# EAGLE library part HSC8PART-60 (library Connectors)
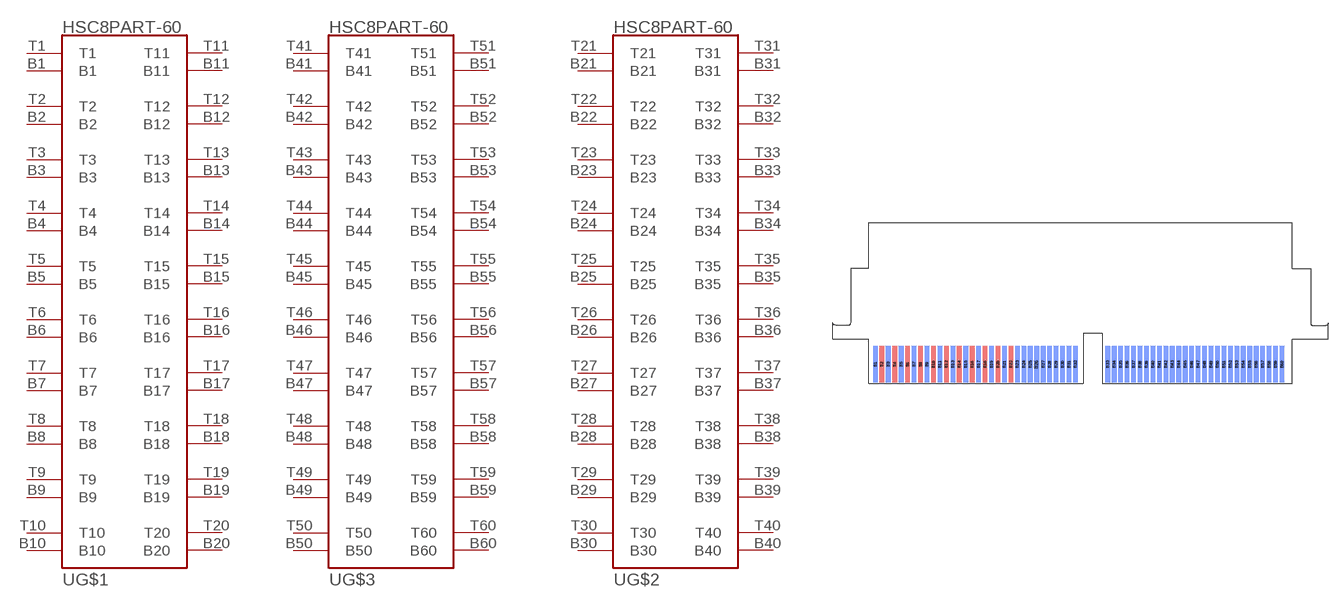
[diagram p11: symbol with the pads of HSC8-60PINOUUT; footprint HSC8-60PINOUUT]

Designator prefix -; gates G$1=HSC8SCHEMATICPART G$2=HSC8SCHEMATIC_BANK2 G$3=HSC8SCHEMATIC_BANK3

## HSC8PART-60  [HSC8-60PINOUUT]
B1  G$1:B1
B2  G$1:B2
B3  G$1:B3
B4  G$1:B4
B5  G$1:B5
B6  G$1:B6
B7  G$1:B7
B8  G$1:B8
B9  G$1:B9
B10  G$1:B10
B11  G$1:B11
B12  G$1:B12
B13  G$1:B13
B14  G$1:B14
B15  G$1:B15
B16  G$1:B16
B17  G$1:B17
B18  G$1:B18
B19  G$1:B19
B20  G$1:B20
B21  G$2:B21
B22  G$2:B22
B23  G$2:B23
B24  G$2:B24
B25  G$2:B25
B26  G$2:B26
B27  G$2:B27
B28  G$2:B28
B29  G$2:B29
B30  G$2:B30
B31  G$2:B31
B32  G$2:B32
B33  G$2:B33
B34  G$2:B34
B35  G$2:B35
B36  G$2:B36
B37  G$2:B37
B38  G$2:B38
B39  G$2:B39
B40  G$2:B40
B41  G$3:B41
B42  G$3:B42
B43  G$3:B43
B44  G$3:B44
B45  G$3:B45
B46  G$3:B46
B47  G$3:B47
B48  G$3:B48
B49  G$3:B49
B50  G$3:B50
B51  G$3:B51
B52  G$3:B52
B53  G$3:B53
B54  G$3:B54
B55  G$3:B55
B56  G$3:B56
B57  G$3:B57
B58  G$3:B58
B59  G$3:B59
B60  G$3:B60
T1  G$1:T1
T2  G$1:T2
T3  G$1:T3
T4  G$1:T4
T5  G$1:T5
T6  G$1:T6
T7  G$1:T7
T8  G$1:T8
T9  G$1:T9
T10  G$1:T10
T11  G$1:T11
T12  G$1:T12
T13  G$1:T13
T14  G$1:T14
T15  G$1:T15
T16  G$1:T16
T17  G$1:T17
T18  G$1:T18
T19  G$1:T19
T20  G$1:T20
T21  G$2:T21
T22  G$2:T22
T23  G$2:T23
T24  G$2:T24
T25  G$2:T25
T26  G$2:T26
T27  G$2:T27
T28  G$2:T28
T29  G$2:T29
T30  G$2:T30
T31  G$2:T31
T32  G$2:T32
T33  G$2:T33
T34  G$2:T34
T35  G$2:T35
T36  G$2:T36
T37  G$2:T37
T38  G$2:T38
T39  G$2:T39
T40  G$2:T40
T41  G$3:T41
T42  G$3:T42
T43  G$3:T43
T44  G$3:T44
T45  G$3:T45
T46  G$3:T46
T47  G$3:T47
T48  G$3:T48
T49  G$3:T49
T50  G$3:T50
T51  G$3:T51
T52  G$3:T52
T53  G$3:T53
T54  G$3:T54
T55  G$3:T55
T56  G$3:T56
T57  G$3:T57
T58  G$3:T58
T59  G$3:T59
T60  G$3:T60

## Footprint HSC8-60PINOUUT (pad centres in mm)
smd 0.575 x 4.5 bottom: B1 0.8,2.4; B2 1.6,2.4; B3 2.4,2.4; B4 3.2,2.4; B5 4,2.4; B6 4.8,2.4; B7 5.6,2.4; B8 6.4,2.4; B9 7.2,2.4; B10 8,2.4; B11 8.8,2.4; B12 9.6,2.4; B13 10.4,2.4; B14 11.2,2.4; B15 12,2.4; B16 12.8,2.4; B17 13.6,2.4; B18 14.4,2.4; B19 15.2,2.4; B20 16,2.4; B21 16.8,2.4; B22 17.6,2.4; B23 18.4,2.4; B24 19.2,2.4; B25 20,2.4; B27 21.6,2.4; B28 22.4,2.4; B29 23.2,2.4; B30 24,2.4; B31 24.8,2.4; B32 25.6,2.4; B33 29.6,2.4; B34 30.4,2.4; B35 31.2,2.4; B36 32,2.4; B37 32.8,2.4; B38 33.6,2.4; B39 34.4,2.4; B40 35.2,2.4; B41 36,2.4; B42 36.8,2.4; B43 37.6,2.4; B44 38.4,2.4; B45 39.2,2.4; B46 40,2.4; B47 40.8,2.4; B48 41.6,2.4; B49 42.4,2.4; B50 43.2,2.4; B51 44,2.4; B52 44.8,2.4; B53 45.6,2.4; B54 46.4,2.4; B55 47.2,2.4; B56 48,2.4; B57 48.8,2.4; B58 49.6,2.4; B59 50.4,2.4; B60 51.2,2.4
smd 0.6 x 4.5 bottom: B26 20.8,2.4
smd 0.575 x 4.5: T1 0.8,2.4; T2 1.6,2.4; T3 2.4,2.4; T4 3.2,2.4; T5 4,2.4; T6 4.8,2.4; T7 5.6,2.4; T8 6.4,2.4; T9 7.2,2.4; T10 8,2.4; T11 8.8,2.4; T12 9.6,2.4; T13 10.4,2.4; T14 11.2,2.4; T15 12,2.4; T16 12.8,2.4; T17 13.6,2.4; T18 14.4,2.4; T19 15.2,2.4; T20 16,2.4; T21 16.8,2.4; T22 17.6,2.4; T23 18.4,2.4; T24 19.2,2.4; T25 20,2.4; T26 20.8,2.4; T27 21.6,2.4; T28 22.4,2.4; T29 23.2,2.4; T30 24,2.4; T31 24.8,2.4; T32 25.6,2.4; T33 29.6,2.4; T34 30.4,2.4; T35 31.2,2.4; T36 32,2.4; T37 32.8,2.4; T38 33.6,2.4; T39 34.4,2.4; T40 35.2,2.4; T41 36,2.4; T42 36.8,2.4; T43 37.6,2.4; T44 38.4,2.4; T45 39.2,2.4; T46 40,2.4; T47 40.8,2.4; T48 41.6,2.4; T49 42.4,2.4; T50 43.2,2.4; T51 44,2.4; T52 44.8,2.4; T53 45.6,2.4; T54 46.4,2.4; T55 47.2,2.4; T56 48,2.4; T57 48.8,2.4; T58 49.6,2.4; T59 50.4,2.4; T60 51.2,2.4